# Altium footprint library Microprocessors.PcbLib: 17 footprints (part 2 of 2)
Each footprint in its own frame and in the unit in brackets; x right, y up, seen from the top. Pads: shape width x height; smd on the part's side, far side on the other; paste and mask are expansions set on the pad; w line width, h text height; cw(c..) or ccw(c..) is an arc to the next point about the centre after c.
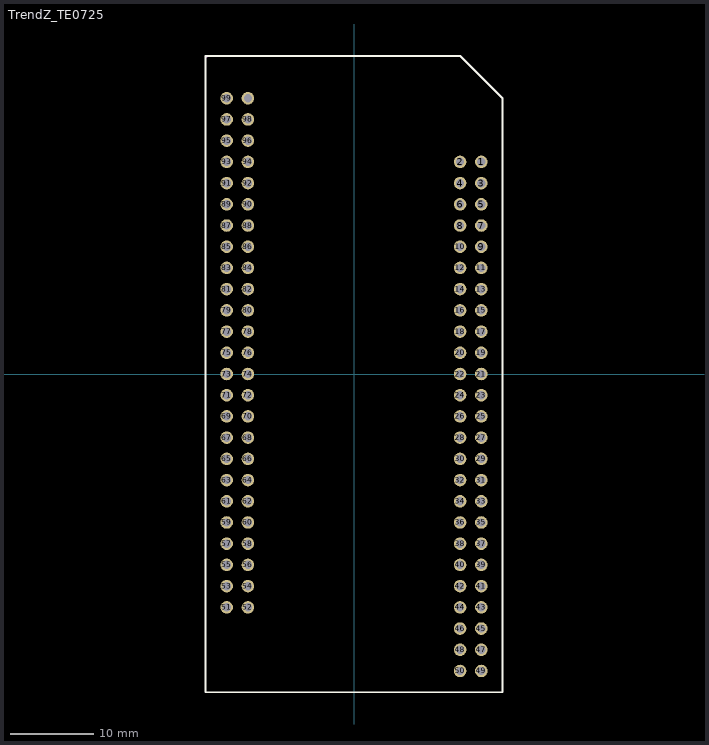
[diagram p1: the footprint, top view; thin cyan lines are the x and y axes]

## TrendZ_TE0725 [mm]
pads (100):
  round 1.5 hole 1: 1(15.24,25.4) 2(12.7,25.4) 3(15.24,22.86) 4(12.7,22.86) 5(15.24,20.32) 6(12.7,20.32) 7(15.24,17.78) 8(12.7,17.78) 9(15.24,15.24) 10(12.7,15.24) 11(15.24,12.7) 12(12.7,12.7) 13(15.24,10.16) 14(12.7,10.16) 15(15.24,7.62) 16(12.7,7.62) 17(15.24,5.08) 18(12.7,5.08) 19(15.24,2.54) 20(12.7,2.54) 21(15.24,0) 22(12.7,0) 23(15.24,-2.54) 24(12.7,-2.54) 25(15.24,-5.08) 26(12.7,-5.08) 27(15.24,-7.62) 28(12.7,-7.62) 29(15.24,-10.16) 30(12.7,-10.16) 31(15.24,-12.7) 32(12.7,-12.7) 33(15.24,-15.24) 34(12.7,-15.24) 35(15.24,-17.78) 36(12.7,-17.78) 37(15.24,-20.32) 38(12.7,-20.32) 39(15.24,-22.86) 40(12.7,-22.86) 41(15.24,-25.4) 42(12.7,-25.4) 43(15.24,-27.94) 44(12.7,-27.94) 45(15.24,-30.48) 46(12.7,-30.48) 47(15.24,-33.02) 48(12.7,-33.02) 49(15.24,-35.56) 50(12.7,-35.56) 51(-15.24,-27.94) 52(-12.7,-27.94) 53(-15.24,-25.4) 54(-12.7,-25.4) 55(-15.24,-22.86) 56(-12.7,-22.86) 57(-15.24,-20.32) 58(-12.7,-20.32) 59(-15.24,-17.78) 60(-12.7,-17.78) 61(-15.24,-15.24) 62(-12.7,-15.24) 63(-15.24,-12.7) 64(-12.7,-12.7) 65(-15.24,-10.16) 66(-12.7,-10.16) 67(-15.24,-7.62) 68(-12.7,-7.62) 69(-15.24,-5.08) 70(-12.7,-5.08) 71(-15.24,-2.54) 72(-12.7,-2.54) 73(-15.24,0) 74(-12.7,0) 75(-15.24,2.54) 76(-12.7,2.54) 77(-15.24,5.08) 78(-12.7,5.08) 79(-15.24,7.62) 80(-12.7,7.62) 81(-15.24,10.16) 82(-12.7,10.16) 83(-15.24,12.7) 84(-12.7,12.7) 85(-15.24,15.24) 86(-12.7,15.24) 87(-15.24,17.78) 88(-12.7,17.78) 89(-15.24,20.32) 90(-12.7,20.32) 91(-15.24,22.86) 92(-12.7,22.86) 93(-15.24,25.4) 94(-12.7,25.4) 95(-15.24,27.94) 96(-12.7,27.94) 97(-15.24,30.48) 98(-12.7,30.48) 99(-15.24,33.02) 100(-12.7,33.02)
Top Overlay:
  lines w0.2: -17.78,-38.1 17.78,-38.1
  lines w0.254: -17.78,-38.1 -17.78,38.1 12.7,38.1 17.78,33.02 17.78,27.94 17.78,-38.1
Mechanical 15:
  lines w0.254: -17.78,38.1 -17.653,37.973
3D body "87606-325LFc.stp": height 9, standoff -2.56, extent -16.51,-29.17 -11.43,34.25
3D body "87606-325LFc.stp": height 9, standoff -2.56, extent 11.43,-36.79 16.51,26.63